# Altium footprint library KM-3.0.PcbLib: 1 footprints
Each footprint in its own frame and in the unit in brackets; x right, y up, seen from the top. Pads: shape width x height; smd on the part's side, far side on the other; paste and mask are expansions set on the pad; w line width, h text height; cw(c..) or ccw(c..) is an arc to the next point about the centre after c.
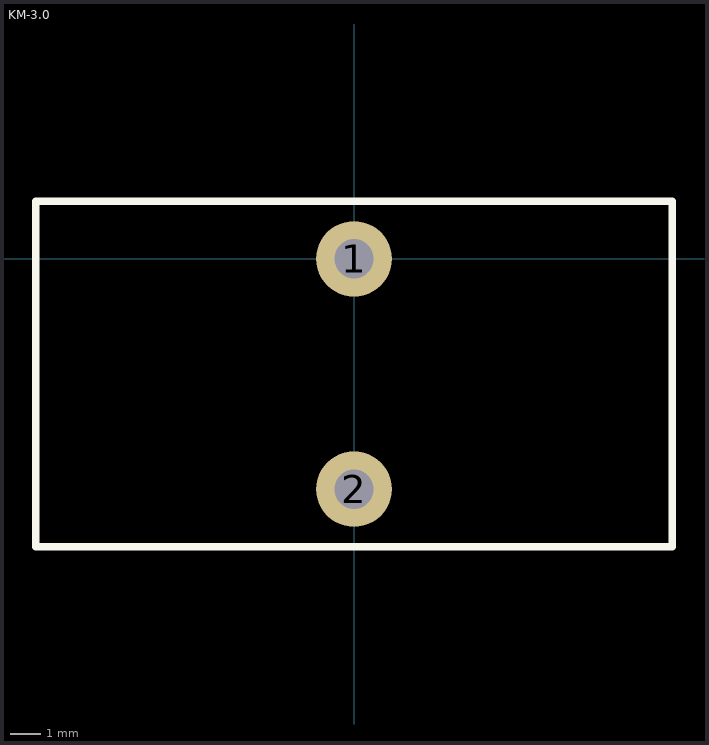
[diagram p0: the footprint, top view; thin cyan lines are the x and y axes]

## KM-3.0 [mm] "FIXED IND 3A 80 MOHM TH"
height 24.13
pads (2):
  round 2.5 hole 1.3: 1(0,0) 2(0,-7.6)
Top Overlay:
  lines w0.254: -10.5,-9.5 10.5,-9.5 10.5,1.9 -10.5,1.9 -10.5,-9.5